# EAGLE library part SL868/9 (library X893)
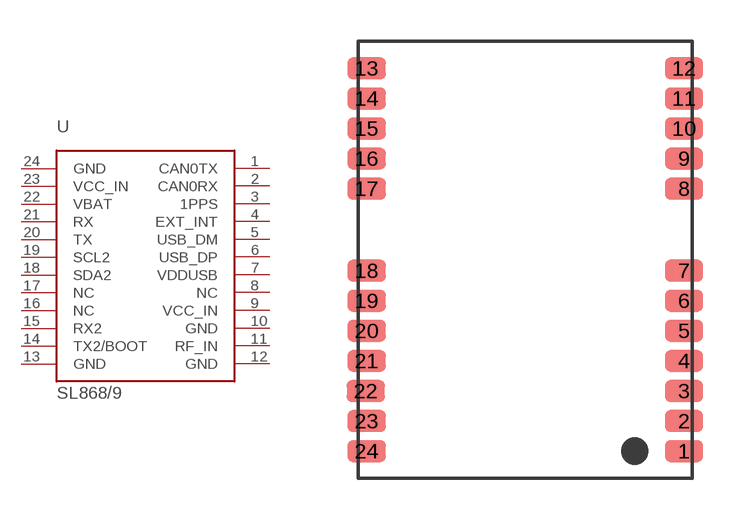
[diagram p163: symbol with the pads of SL868/9; footprint SL868/9]

Designator prefix U

## SL868/9  [SL868/9]
1  CAN0TX  out
2  CAN0RX  in
3  1PPS  out
4  EXT_INT
5  USB_DM
6  USB_DP
7  VDDUSB
8  NC  nc
9  VCC_IN  pas
10  GND  sup
11  RF_IN  pas
12  GND  sup
13  GND  sup
14  TX2/BOOT  out
15  RX2  in
16  NC  nc
17  NC  nc
18  SDA2
19  SCL2
20  TX  out
21  RX  in
22  VBAT  pas
23  VCC_IN  pas
24  GND  sup

## Footprint SL868/9 (pad centres in mm)
smd 1.4 x 0.8: 1 5.8,-7; 2 5.8,-5.9; 3 5.8,-4.8; 4 5.8,-3.7; 5 5.8,-2.6; 6 5.8,-1.5; 7 5.8,-0.4; 8 5.8,2.6; 9 5.8,3.7; 10 5.8,4.8; 11 5.8,5.9; 12 5.8,7; 13 -5.8,7; 14 -5.8,5.9; 15 -5.8,4.8; 16 -5.8,3.7; 17 -5.8,2.6; 18 -5.8,-0.4; 19 -5.8,-1.5; 20 -5.8,-2.6; 21 -5.8,-3.7; 22 -5.83,-4.8; 23 -5.8,-5.9; 24 -5.8,-7